# EAGLE library part LTC4055 (library howell)
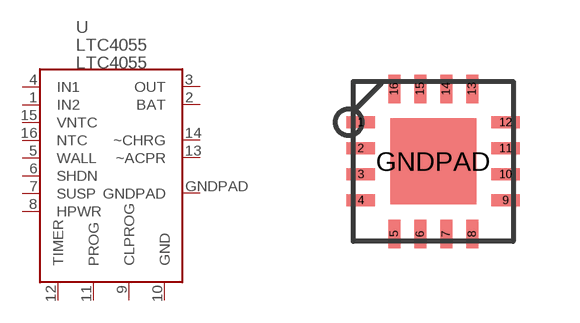
[diagram p3: symbol with the pads of QFN16-4X4MM; footprint QFN16-4X4MM]

Designator prefix -

## LTC4055  [QFN16-4X4MM]
1  IN2
2  BAT
3  OUT
4  IN1
5  WALL
6  SHDN
7  SUSP
8  HPWR
9  CLPROG
10  GND
11  PROG
12  TIMER
13  ~ACPR
14  ~CHRG
15  VNTC
16  NTC
GNDPAD  GNDPAD

## Footprint QFN16-4X4MM (pad centres in mm)
smd 0.72 x 0.3: 1 -1.812,0.975; 2 -1.812,0.325; 3 -1.812,-0.325; 4 -1.812,-0.975; 9 1.812,-0.975; 10 1.812,-0.325; 11 1.812,0.325; 12 1.812,0.975
smd 0.3 x 0.72: 5 -0.975,-1.812; 6 -0.325,-1.812; 7 0.325,-1.812; 8 0.975,-1.812; 13 0.975,1.812; 14 0.325,1.812; 15 -0.325,1.812; 16 -0.975,1.812
smd 2.15 x 2.15: GNDPAD 0,0